# Altium footprint library lib_molex.PcbLib: 5 footprints
Each footprint in its own frame and in the unit in brackets; x right, y up, seen from the top. Pads: shape width x height; smd on the part's side, far side on the other; paste and mask are expansions set on the pad; w line width, h text height; cw(c..) or ccw(c..) is an arc to the next point about the centre after c.
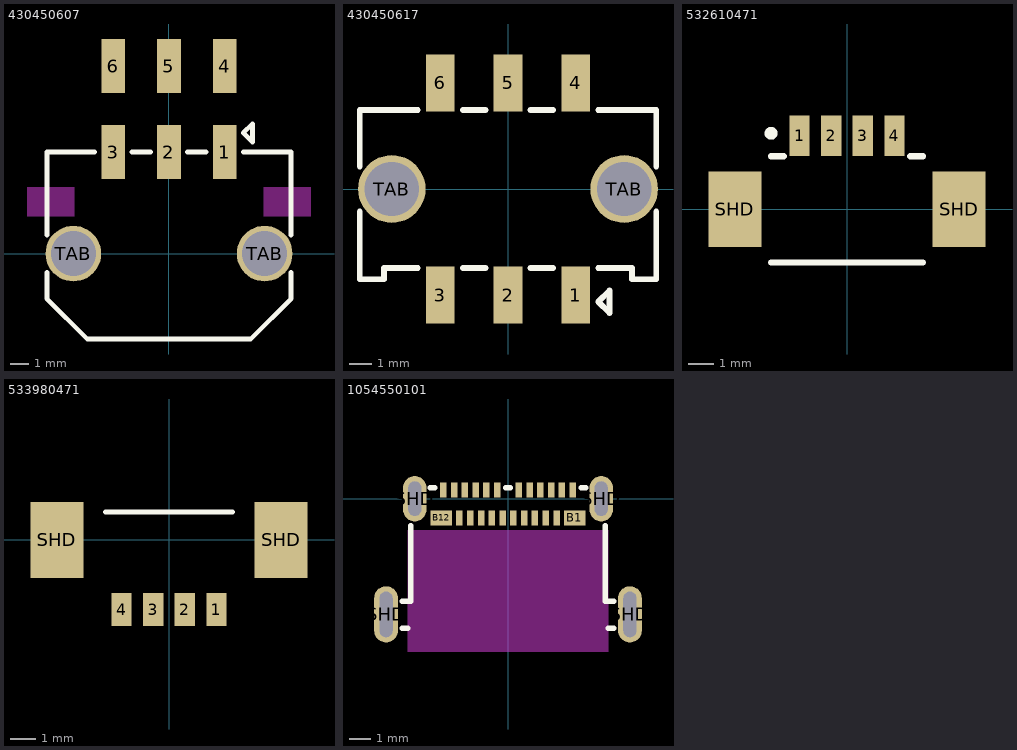
[diagram p0: the footprints below, top view; thin cyan lines are the x and y axes]

## 430450607 [mm]
pads (8):
  rect 1.27x2.92 smd: 1(3,5.47) 2(0,5.47) 3(-3,5.47) 4(3,10.1) 5(0,10.1) 6(-3,10.1)
  round 3 hole 2.41: TAB(-5.15,0) TAB(5.15,0)
Top Overlay:
  lines w0.254: -6.575,-1 -6.575,-2.425 -4.4,-4.6 4.4,-4.6 6.575,-2.425 6.575,-1 ; -6.575,1 -6.575,5.47 -4,5.47 ; -2,5.47 -1,5.47 ; 1,5.47 2,5.47 ; 4,5.47 6.575,5.47 6.575,1 ; 4,6.5 4.5,7 4.5,6 4,6.5
Keep-Out Layer:
  region: -5.1,3.6 -7.64,3.6 -7.64,2 -5.1,2
  rectangle: 5.1,2 7.64,3.6
3D body "430450607.stp": height 8.83, standoff -1.94, extent -6.575,-4.655 6.575,10.745

## 430450617 [mm]
pads (8):
  rect 1.27x2.54 smd: 1(3,-4.7) 2(0,-4.7) 3(-3,-4.7) 4(3,4.7) 5(0,4.7) 6(-3,4.7)
  round 3 hole 2.41: TAB(-5.15,0) TAB(5.15,0)
Top Overlay:
  lines w0.254: -6.575,-1 -6.575,-4 -5.5,-4 -5.5,-3.5 -4,-3.5 ; -6.575,1 -6.575,3.5 -4,3.5 ; -2,-3.5 -1,-3.5 ; -2,3.5 -1,3.5 ; 1,-3.5 2,-3.5 ; 1,3.5 2,3.5 ; 4,-3.5 5.5,-3.5 5.5,-4 6.575,-4 6.575,-1 ; 4,3.5 6.575,3.5 6.575,1 ; 4,-5 4.5,-4.5 4.5,-5.5 4,-5
3D body "430450617.stp": height 9.95, standoff -1.96, extent -6.575,-5.61 6.575,5.59

## 532610471 [mm]
pads (6):
  rect 0.8x1.6 smd: 1(-1.875,2.9) 2(-0.625,2.9) 3(0.625,2.9) 4(1.875,2.9)
  rect 2.1x3 smd: SHD(-4.425,0) SHD(4.425,0)
Top Overlay:
  circle w0.254: c-3,3 r0.127
  lines w0.25: -3,-2.1 3,-2.1 ; -3,2.1 -2.5,2.1 ; 2.5,2.1 3,2.1
3D body "532610471.stp": height 3.4, standoff 0, extent -5.075,-2.075 5.075,3.125

## 533980471 [mm]
pads (6):
  rect 0.8x1.3 smd: 1(1.875,-2.75) 2(0.625,-2.75) 3(-0.625,-2.75) 4(-1.875,-2.75)
  rect 2.1x3 smd: SHD(-4.425,0) SHD(4.425,0)
Top Overlay:
  lines w0.2: -2.5,1.1 2.5,1.1
3D body "533980471.stp": height 4.69, standoff 0, extent -5.075,-3.1 5.075,1.1

## 1054550101 [mm]
pads (28):
  rect 0.3x0.7 smd: A1(-3,0.41) A2(-2.5,0.41) A3(-2,0.41) A4(-1.5,0.41) A5(-1,0.41) A6(-0.5,0.41) A7(0.5,0.41) A8(1,0.41) A9(1.5,0.41) A10(2,0.41) A11(2.5,0.41) A12(3,0.41) B2(2.25,-0.89) B3(1.75,-0.89) B4(1.25,-0.89) B5(0.75,-0.89) B6(0.25,-0.89) B7(-0.25,-0.89) B8(-0.75,-0.89) B9(-1.25,-0.89) B10(-1.75,-0.89) B11(-2.25,-0.89)
  rect 1x0.7 smd: B1(3.1,-0.89) B12(-3.1,-0.89)
  rrect100% 1.1x2.6 hole 0.6 slot 2.1 at 90 deg: SHD(-5.65,-5.36) SHD(5.65,-5.36)
  rrect100% 1.1x2.1 hole 0.6 slot 1.6 at 90 deg: SHD(-4.32,0) SHD(4.32,0)
Top Overlay:
  lines w0.254: -4.9,-6 -4.65,-6 ; -4.9,-4.75 -4.5,-4.75 -4.5,-1.25 ; -3.6,0.5 -3.4,0.5 ; -0.1,0.5 0.1,0.5 ; 3.4,0.5 3.6,0.5 ; 4.5,-1.25 4.5,-4.75 4.9,-4.75 ; 4.65,-6 4.9,-6
Keep-Out Layer:
  board cut-out: 4.65,-1.45 4.65,-7.1 -4.65,-7.1 -4.65,-1.45
3D body "1054550101.stp": height 2.22, standoff -0.94, extent -5.8,-7.4 5.8,0.5